# EAGLE library part NACHTATMEGA_2560-16AU (library NachtElk_AtmelAtmegas)
Nacht Elk. - Atmel ATmega2560-16AU Ekrem Turan Fırat Nacht Elk. - Atmel ATmega2560-16AU Company: Atmel Model: ATmega2560-16AU Microcontroller Type: AVR Operating Voltage: 4,5V up to 5,5V Operating Speed: 16MHz Memory: 256kB Number of I/O pins: 86 Operating temperature: -40 °C up to +85°C Package: TQFP100 Datasheet <https://ww1.microchip.com/downloads/en/devicedoc/atmel-2549-8-bit-avr-microcontroller-atmega640-1280-1281-2560-2561_datasheet.pdf> 17.01.2022
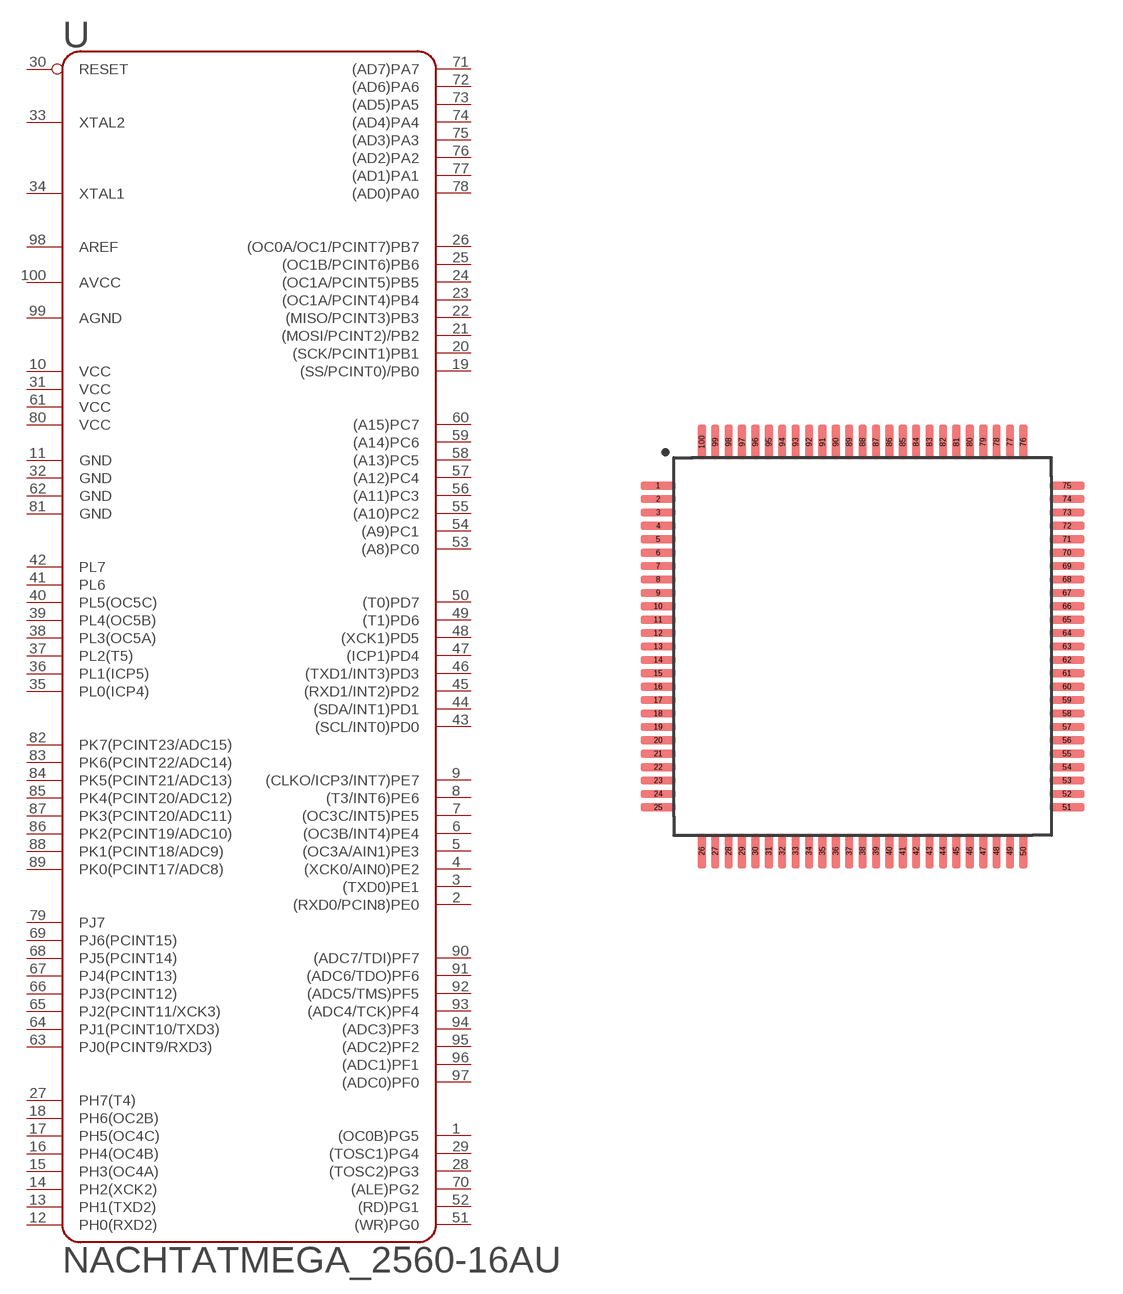
[diagram p0: symbol with the pads of TQFP100; footprint TQFP100]

Designator prefix U

## NACHTATMEGA_2560-16AU (COMPANY: Atmel; IO-PINS: 86; MEMORY: 256kB; MICROCONTROLLER-TYPE: AVR; MODEL: ATmega2560-16AU; PACKAGE: TQFP100; SPEED: 16MHz; TEMPERATURE: -40°C up to +85°C; VALUE: ATmega2560-16AU; VOLTAGE: 4,5V up to 5,5V)  [TQFP100]
1  (OC0B)PG5
2  (RXD0/PCIN8)PE0
3  (TXD0)PE1
4  (XCK0/AIN0)PE2
5  (OC3A/AIN1)PE3
6  (OC3B/INT4)PE4
7  (OC3C/INT5)PE5
8  (T3/INT6)PE6
9  (CLKO/ICP3/INT7)PE7
10  VCC  pwr
11  GND  pwr
12  PH0(RXD2)
13  PH1(TXD2)
14  PH2(XCK2)
15  PH3(OC4A)
16  PH4(OC4B)
17  PH5(OC4C)
18  PH6(OC2B)
19  (SS/PCINT0)/PB0
20  (SCK/PCINT1)PB1
21  (MOSI/PCINT2)/PB2
22  (MISO/PCINT3)PB3
23  (OC1A/PCINT4)PB4
24  (OC1A/PCINT5)PB5
25  (OC1B/PCINT6)PB6
26  (OC0A/OC1/PCINT7)PB7
27  PH7(T4)
28  (TOSC2)PG3
29  (TOSC1)PG4
30  RESET  pwr
31  VCC  pwr
32  GND  pwr
33  XTAL2  pas
34  XTAL1  pas
35  PL0(ICP4)
36  PL1(ICP5)
37  PL2(T5)
38  PL3(OC5A)
39  PL4(OC5B)
40  PL5(OC5C)
41  PL6
42  PL7
43  (SCL/INT0)PD0
44  (SDA/INT1)PD1
45  (RXD1/INT2)PD2
46  (TXD1/INT3)PD3
47  (ICP1)PD4
48  (XCK1)PD5
49  (T1)PD6
50  (T0)PD7
51  (WR)PG0
52  (RD)PG1
53  (A8)PC0
54  (A9)PC1
55  (A10)PC2
56  (A11)PC3
57  (A12)PC4
58  (A13)PC5
59  (A14)PC6
60  (A15)PC7
61  VCC  pwr
62  GND  pwr
63  PJ0(PCINT9/RXD3)
64  PJ1(PCINT10/TXD3)
65  PJ2(PCINT11/XCK3)
66  PJ3(PCINT12)
67  PJ4(PCINT13)
68  PJ5(PCINT14)
69  PJ6(PCINT15)
70  (ALE)PG2
71  (AD7)PA7
72  (AD6)PA6
73  (AD5)PA5
74  (AD4)PA4
75  (AD3)PA3
76  (AD2)PA2
77  (AD1)PA1
78  (AD0)PA0
79  PJ7
80  VCC  pwr
81  GND  pwr
82  PK7(PCINT23/ADC15)
83  PK6(PCINT22/ADC14)
84  PK5(PCINT21/ADC13)
85  PK4(PCINT20/ADC12)
86  PK2(PCINT19/ADC10)
87  PK3(PCINT20/ADC11)
88  PK1(PCINT18/ADC9)
89  PK0(PCINT17/ADC8)
90  (ADC7/TDI)PF7
91  (ADC6/TDO)PF6
92  (ADC5/TMS)PF5
93  (ADC4/TCK)PF4
94  (ADC3)PF3
95  (ADC2)PF2
96  (ADC1)PF1
97  (ADC0)PF0
98  AREF  pwr
99  AGND  pwr
100  AVCC  pwr

## Footprint TQFP100 (pad centres in mm)
Nacht Elk. - Atmel ATmega Ekrem Turan Fırat Package: TQFP100 Dimensions(LxWxH): 14x14x1 mm 17.01.2022
smd 1.3 x 0.3: 1 -7.63,6; 2 -7.63,5.5; 3 -7.63,5; 4 -7.63,4.5; 5 -7.63,4; 6 -7.63,3.5; 7 -7.63,3; 8 -7.63,2.5; 9 -7.63,2; 10 -7.63,1.5; 11 -7.63,1; 12 -7.63,0.5; 13 -7.63,0; 14 -7.63,-0.5; 15 -7.63,-1; 16 -7.63,-1.5; 17 -7.63,-2; 18 -7.63,-2.5; 19 -7.63,-3; 20 -7.63,-3.5; 21 -7.63,-4; 22 -7.63,-4.5; 23 -7.63,-5; 24 -7.63,-5.5; 25 -7.63,-6; 51 7.63,-6; 52 7.63,-5.5; 53 7.63,-5; 54 7.63,-4.5; 55 7.63,-4; 56 7.63,-3.5; 57 7.63,-3; 58 7.63,-2.5; 59 7.63,-2; 60 7.63,-1.5; 61 7.63,-1; 62 7.63,-0.5; 63 7.63,0; 64 7.63,0.5; 65 7.63,1; 66 7.63,1.5; 67 7.63,2; 68 7.63,2.5; 69 7.63,3; 70 7.63,3.5; 71 7.63,4; 72 7.63,4.5; 73 7.63,5; 74 7.63,5.5; 75 7.63,6
smd 0.3 x 1.3: 26 -6,-7.63; 27 -5.5,-7.63; 28 -5,-7.63; 29 -4.5,-7.63; 30 -4,-7.63; 31 -3.5,-7.63; 32 -3,-7.63; 33 -2.5,-7.63; 34 -2,-7.63; 35 -1.5,-7.63; 36 -1,-7.63; 37 -0.5,-7.63; 38 0,-7.63; 39 0.5,-7.63; 40 1,-7.63; 41 1.5,-7.63; 42 2,-7.63; 43 2.5,-7.63; 44 3,-7.63; 45 3.5,-7.63; 46 4,-7.63; 47 4.5,-7.63; 48 5,-7.63; 49 5.5,-7.63; 50 6,-7.63; 76 6,7.63; 77 5.5,7.63; 78 5,7.63; 79 4.5,7.63; 80 4,7.63; 81 3.5,7.63; 82 3,7.63; 83 2.5,7.63; 84 2,7.63; 85 1.5,7.63; 86 1,7.63; 87 0.5,7.63; 88 0,7.63; 89 -0.5,7.63; 90 -1,7.63; 91 -1.5,7.63; 92 -2,7.63; 93 -2.5,7.63; 94 -3,7.63; 95 -3.5,7.63; 96 -4,7.63; 97 -4.5,7.63; 98 -5,7.63; 99 -5.5,7.63; 100 -6,7.63